# Altium footprint library FT230XQ-T.PcbLib: 2 footprints
Each footprint in its own frame and in the unit in brackets; x right, y up, seen from the top. Pads: shape width x height; smd on the part's side, far side on the other; paste and mask are expansions set on the pad; w line width, h text height; cw(c..) or ccw(c..) is an arc to the next point about the centre after c.
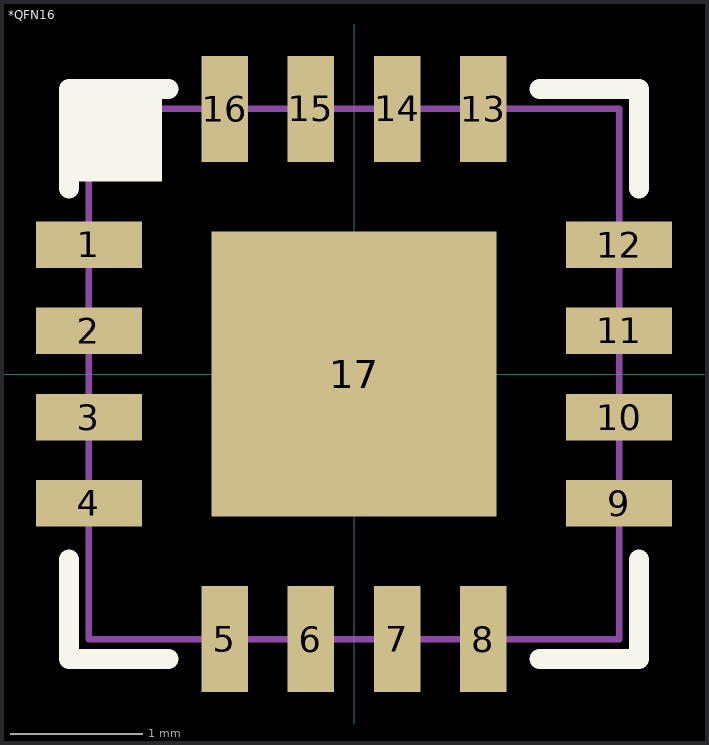
[diagram p0: the footprints below, top view; thin cyan lines are the x and y axes]

## *QFN16 [mm]
pads (17):
  rect 0.8x0.35 smd: 1(-2,0.975) 2(-2,0.325) 3(-2,-0.325) 4(-2,-0.975) 9(2,-0.975) 10(2,-0.325) 11(2,0.325) 12(2,0.975)
  rect 0.35x0.8 smd: 5(-0.975,-2) 6(-0.325,-2) 7(0.325,-2) 8(0.975,-2) 13(0.975,2) 14(0.325,2) 15(-0.325,2) 16(-0.975,2)
  rect 2.15x2.15 smd: 17(0,0)
Top Overlay:
  region: -2.155,2.15 -1.45,2.15 -1.45,1.453 -2.155,1.453
  lines w0.152: -2.15,-1.4 -2.15,-2.15 -1.4,-2.15 ; -2.15,1.4 -2.15,2.15 -1.4,2.15 ; 1.4,-2.15 2.15,-2.15 2.15,-1.4 ; 1.4,2.15 2.15,2.15 2.15,1.4
Mechanical 4:
  lines w0.051: -2,-2 -2,2 ; -2,-2 2,-2 ; -2,-2 -2,2 ; -2,-2 2,-2 ; -2,2 2,2 ; -2,2 2,2 ; 2,-2 2,2 ; 2,-2 2,2

## PCBComponent_1 [mm]